# Altium footprint library X2_100nF_P10mm_Suppression_Capacitor.PcbLib: 1 footprints
Each footprint in its own frame and in the unit in brackets; x right, y up, seen from the top. Pads: shape width x height; smd on the part's side, far side on the other; paste and mask are expansions set on the pad; w line width, h text height; cw(c..) or ccw(c..) is an arc to the next point about the centre after c.
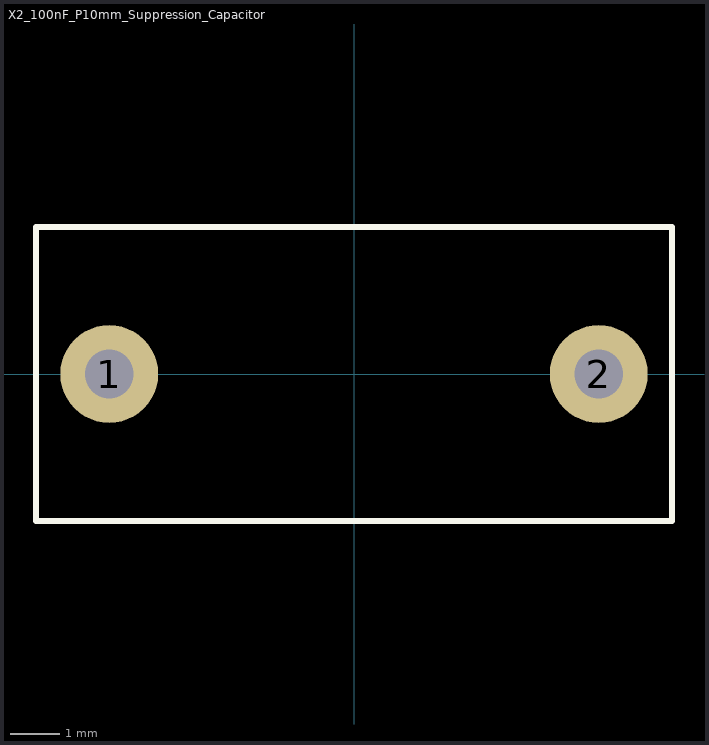
[diagram p0: the footprint, top view; thin cyan lines are the x and y axes]

## X2_100nF_P10mm_Suppression_Capacitor [mm] "X2_100nF_P10mm_Suppression_Capacitor"
pads (2):
  round 2 hole 1: 1(-5,0) 2(5,0)
Top Overlay:
  lines w0.12: -6.5,-3 6.5,-3 6.5,3 -6.5,3 -6.5,-3
Mechanical 1:
  lines w0.1: -6.5,-3 -6.5,3 6.5,3 6.5,-3 -6.5,-3
  text ".Designator" at 0,0.188 h1
Mechanical 15:
  text "+" at -0.833,-1.225 h2.5
3D body "X2 Film Capacitor.STEP": height 11, standoff -5, extent -6.5,-2.54 6.5,2.46